# EAGLE library part AD5282 (library DAC)
Dual +15 V/±5 V, 256-Position, I2C-Compatible Digital Potentiometer Source: http://www.analog.com/static/imported-files/data_sheets/AD5280_5282.pdf
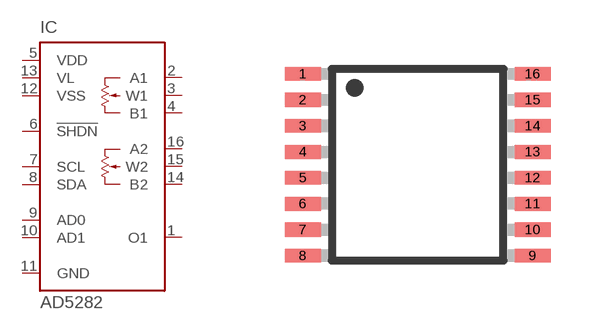
[diagram p144: symbol with the pads of TSSOP16; footprint TSSOP16]

Designator prefix IC

## AD5282 (MF: ALTERA CORPORATION; MPN: AD5282BRUZ50; OC_FARNELL: 1438442; OC_NEWARK: 59K3850)  [TSSOP16]
1  O1  out
2  A1  pas
3  W1  pas
4  B1  pas
5  VDD  pwr
6  !SHDN  in
7  SCL  in
8  SDA
9  AD0  in
10  AD1  in
11  GND  pwr
12  VSS  pwr
13  VL  pwr
14  B2  pas
15  W2  pas
16  A2  pas

## Footprint TSSOP16 (pad centres in mm)
16-Lead Thin Shrink Small Outline Package [TSSOP] (RU-16) Source: 8x ADG1408_1409.pdf
smd 0.9 x 0.35: 1 -2.875,2.275; 2 -2.875,1.625; 3 -2.875,0.975; 4 -2.875,0.325; 5 -2.875,-0.325; 6 -2.875,-0.975; 7 -2.875,-1.625; 8 -2.875,-2.275; 9 2.875,-2.275; 10 2.875,-1.625; 11 2.875,-0.975; 12 2.875,-0.325; 13 2.875,0.325; 14 2.875,0.975; 15 2.875,1.625; 16 2.875,2.275